# Altium schematic symbol library AUVic_Schematic_Library_Motor_Controllers.SchLib: 4 symbols
Pins are listed as number, name and electrical type; pins without a type are passive.

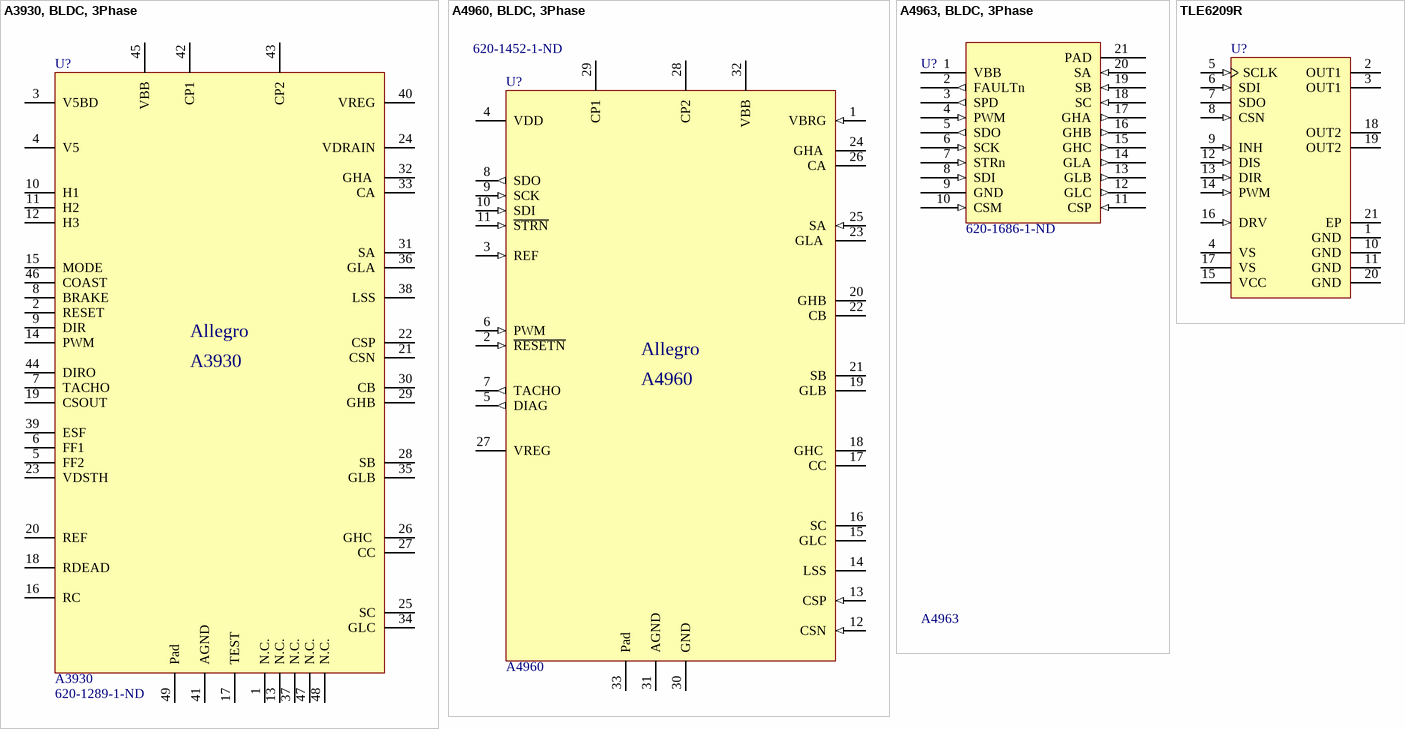
[diagram p0: symbols A3930, BLDC, 3Phase to TLE6209R]

## A3930, BLDC, 3Phase
designator U?, comment A3930  Supplier Part Number 1: 620-1289-1-ND
A3930, BLDC, 3 Phase, Hall; Supplier 1: Digi-Key
footprint TSQFP50P900X900X160_HS-49N (TSQFP, 48-Leads, Body 7.00x7.00mm, Pitch 0.50mm, Thermal Pad 5.40x5.40mm, IPC Medium Density)
footprint TSQFP50P900X900X160_HS-49L (TSQFP, 48-Leads, Body 7.00x7.00mm, Pitch 0.50mm, Thermal Pad 5.40x5.40mm, IPC High Density)
pins: 1 N.C., 2 RESET, 3 V5BD, 4 V5, 5 FF2, 6 FF1, 7 TACHO, 8 BRAKE, 9 DIR, 10 H1, 11 H2, 12 H3, 13 N.C., 14 PWM , 15 MODE, 16 RC, 17 TEST, 18 RDEAD , 19 CSOUT , 20 REF, 21 CSN, 22 CSP, 23 VDSTH , 24 VDRAIN, 25 SC, 26 GHC , 27 CC, 28 SB, 29 GHB, 30 CB, 31 SA, 32 GHA , 33 CA, 34 GLC, 35 GLB, 36 GLA, 37 N.C., 38 LSS, 39 ESF , 40 VREG, 41 AGND, 42 CP1, 43 CP2, 44 DIRO, 45 VBB, 46 COAST, 47 N.C., 48 N.C., 49 Pad
text: Allegro

## A4960, BLDC, 3Phase
designator U?, comment A4960  Supplier Part Number 1: 620-1452-1-ND
A4960, BLDC, 3 Phase, Sensorless; Supplier 1: Digi-Key
footprint LQFP80P900X900X160-32BM (LQFP, 32-Leads, Body 7.00x7.00mm, Pitch 0.80mm, Thermal Pad 5.40x5.40mm, IPC High Density)
pins: 1 VBRG (in), 2 ~{RESETN} (in), 3 REF (in), 4 VDD (power), 5 DIAG (out), 6 PWM  (in), 7 TACHO (out), 8 SDO (out), 9 SCK (in), 10 SDI (in), 11 ~{STRN} (in), 12 CSN (in), 13 CSP (in), 14 LSS, 15 GLC, 16 SC, 17 CC, 18 GHC , 19 GLB, 20 GHB, 21 SB, 22 CB, 23 GLA , 24 GHA , 25 SA (in), 26 CA, 27 VREG (power), 28 CP2, 29 CP1, 30 GND (power), 31 AGND (power), 32 VBB (power), 33 Pad
text: Allegro

## A4963, BLDC, 3Phase
designator U?, comment A4963  Supplier Part Number 1: 620-1686-1-ND
A4963, BLDC, 3 Phase, Sensorless; Supplier 1: Digi-Key; Created By: Poorna Chander Kalidas
footprint TSOP65P640X120_HS-21M (TSOP, 20-Leads, Body 6.50x4.40mm, Pitch 0.65mm, Thermal Pad 4.20x3.00mm, IPC Low Density)
pins: 1 VBB (power) "Main Supply", 2 FAULTn (out) "Fault Output Open Drain", 3 SPD (out) "Speed Output", 4 PWM (in) "PWM Input, pulled low for fault", 5 SDO (out) "Serial Data Output", 6 SCK (in) "Serial Clock", 7 STRn (in) "Serial Strobe (Chip Select)", 8 SDI (in) "Serial Data Input", 9 GND (power), 10 CSM (in) "Sence amp, negative input", 11 CSP (in) "Sence amp, positive input", 12 GLC (out) "Phase C LS FET Gate Drive", 13 GLB (out) "Phase B LS FET Gate Drive", 14 GLA (out) "Phase A LS FET Gate Drive", 15 GHC (out) "Phase C HS FET Gate Drive", 16 GHB (out) "Phase B HS FET Gate Drive", 17 GHA (out) "Phase A HS FET Gate Drive", 18 SC (in) "Phase C Motor Phase", 19 SB (in) "Phase B Motor Phase", 20 SA (in) "Phase A Motor Phase", 21 PAD (power) "GND"

## TLE6209R
designator U?
7 A H-Bridge for DC-Motor Applications, 5.2 to 40 V, 140 mOhm RDS(on), PG-DSO-20-37, Reel, Green; Manufacturer: Infineon; PartNumber: TLE6209R; Current Limit (min.): 5.95 A; Green: TRUE; Quiescent Current (max.): 50 uA; RthJC (max): 1.5 K/W; DatasheetVersion: Rev. 3.2; PackageReference: PG-DSO-20-37; PackageDescription: 20-Pin Plastic (Green) Dual Small Outline Package, 15.9 x 11 mm Body, 1.27 mm Pitch; Supplier 1: Digi-Key; Supplier Part Number 1: TLE6209RTR-ND; Supplier 2: Digi-Key; Supplier Part Number 2: TLE6209RCT-ND; Supplier 3: Digi-Key; Supplier Part Number 3: TLE6209RDKR-ND; Halogen-free: TRUE; Operating Range: 5.2 to 40 V; Packing: Reel; RDS (on) (typ./switch): 140 mOhm; Mounting Technology: Surface Mount; ComponentLink1Description: Manufacturer URL; ComponentLink1URL: http://www.infineon.com/; ComponentLink2Description: Datasheet; ComponentLink2URL: http://www.infineon.com/dgdl/TLE6209R-Data+Sheet-Infineon-v32.pdf?folderId=db3a304412b407950112b43826126a5a&fileId=db3a304412b407950112b43826986a5b&sId=db3a30433d68e984013d7d39259a5b47; ComponentLink3Description: Package Specification; ComponentLink3URL: http://www.infineon.com/cms/packages/SMD_-_Surface_Mounted_Devices/P-PG-DSO/P-PG-DSO-20-10x_-12x_-13x_-16x_-33x_-34x_-37x_-48x_-50.html?__locale=en
footprint INF-PG-DSO-20-37_N (SOP, 20-Leads, Body 15.9x11mm, Pitch 1.27mm, Thermal Pad 15.84x6mm, IPC Medium Density)
footprint INF-PG-DSO-20-37_L (SOP, 20-Leads, Body 15.9x11mm, Pitch 1.27mm, Thermal Pad 15.84x6mm, IPC High Density)
footprint INF-PG-DSO-20-37_M (SOP, 20-Leads, Body 15.9x11mm, Pitch 1.27mm, Thermal Pad 15.84x6mm, IPC Low Density)
pins: 1 GND (power) "Ground; internally connected to cooling tab (heat slug); to reduce  thermal resistance place cooling areas and thermal vias on PCB.", 2 OUT1 (power) "Output 1; output of D-MOS half bridge 1; external connection  between pin 2 and pin 3 is necessary.", 3 OUT1 (power) "Output 1; output of D-MOS half bridge 1; external connection  between pin 2 and pin 3 is necessary.", 4 VS (power) "Power supply; needs a blocking capacitor as close as possible to  GND; 47 uF electrolytic in parallel to 220 nF ceramic is  recommended; external connection between pin 4 and pin 17 is  necessary.", 5 SCLK (in) "Serial clock input; clocks the shiftregister; SCLK has an internal  active pull down and requires CMOS logic levels", 6 SDI (in) "Serial data input; receives serial data from the control device;  serial data transmitted to SDI is an 8 bit control word with the Least  Significant Bit (LSB) being transferred first; the input has an active  pull down and (See Datasheet)", 7 SDO (hiz) "Serial-Data-Output; this tri-state output transfers diagnosis data to  the control device; the output will remain tri-stated unless the device  is selected by a low on Chip-Select-Not (CSN); SDO state changes  on the rising (See Datasheet)", 8 CSN (in) "Chip-Select-Not input; CSN is an active low input; serial  communication is enabled by pulling the CSN terminal low; CSN  input should only be transitioned when SCLK is low; CSN has an  internal active pull up and requires (See Datasheet)", 9 INH (in) "Inhibit input; has an internal pull down; device is switched in  standby condition by pulling the INH terminal low.", 10 GND (power) "Ground; internally connected to cooling tab (heat slug); to reduce  thermal resistance place cooling areas and thermal vias on PCB.", 11 GND (power) "Ground; internally connected to cooling tab (heat slug); to reduce  thermal resistance place cooling areas and thermal vias on PCB.", 12 DIS (in) "Disable input; has an internal pull up; the output stages are  switched in tristate condition by pulling the DIS terminal high", 13 DIR (in) "Direction input; has an internal pull down; TTL/CMOS compatible  input", 14 PWM (in) "PWM input; has an internal pull down; TTL/CMOS compatible  input.", 15 VCC (power) "Logic supply voltage; needs a blocking capacitor as close as  possible to GND; 10 uF electrolytic in parallel to 220 nF ceramic is  recommended.", 16 DRV (in) "Drive; Input for external charge pump capacitor CDRV", 17 VS (power) "Power supply; needs a blocking capacitor as close as possible to  GND; 47 uF electrolytic in parallel to 220 nF ceramic is  recommended; external connection between pin 4 and pin 17 is  necessary.", 18 OUT2 (power) "Output 2; output of D-MOS half bridge 2; external connection  between pin 2 and pin 3 is necessary.", 19 OUT2 (power) "Output 2; output of D-MOS half bridge 2; external connection  between pin 2 and pin 3 is necessary.", 20 GND (power) "Ground; internally connected to cooling tab (heat slug); to reduce  thermal resistance place cooling areas and thermal vias on PCB.", 21 EP (power)